# Altium footprint library 219-2MST.PcbLib: 1 footprints
Each footprint in its own frame and in the unit in brackets; x right, y up, seen from the top. Pads: shape width x height; smd on the part's side, far side on the other; paste and mask are expansions set on the pad; w line width, h text height; cw(c..) or ccw(c..) is an arc to the next point about the centre after c.
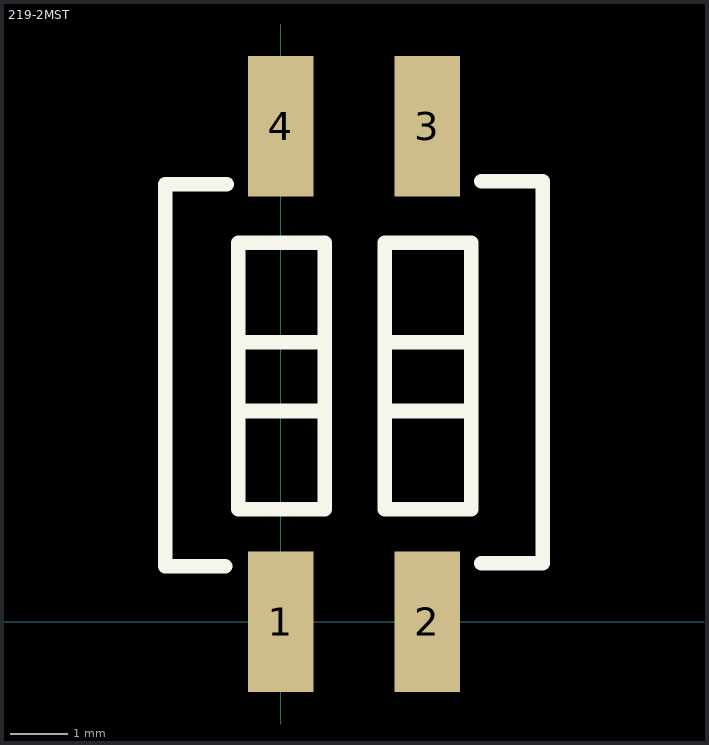
[diagram p0: the footprint, top view; thin cyan lines are the x and y axes]

## 219-2MST [mm] "2 position SMT DIP switch"
height 3.8
pads (4):
  rect 1.13x2.44 smd paste+0 mask+0.075: 1(0,0) 2(2.54,0) 3(2.54,8.6) 4(0,8.6)
Top Overlay:
  lines w0.254: -0.965,0.965 -2.007,0.965 -2.007,7.595 -0.94,7.595 ; -0.737,3.658 0.737,3.658 ; -0.686,4.851 0.737,4.851 ; 1.803,3.658 3.277,3.658 ; 1.854,4.851 3.277,4.851 ; 3.48,1.016 4.547,1.016 4.547,7.645 3.48,7.645 ; -0.737,1.956 0.762,1.956 0.762,6.579 -0.737,6.579 -0.737,1.956 ; 1.803,1.956 1.803,6.579 3.302,6.579 3.302,1.956 1.803,1.956
3D body: height 4.28, standoff -0.02, extent -2.03,-0.637 4.52,9.273